# Altium footprint library PCBs.pcblib: 37 footprints (part 1 of 3)
Each footprint in its own frame and in the unit in brackets; x right, y up, seen from the top. Pads: shape width x height; smd on the part's side, far side on the other; paste and mask are expansions set on the pad; w line width, h text height; cw(c..) or ccw(c..) is an arc to the next point about the centre after c.
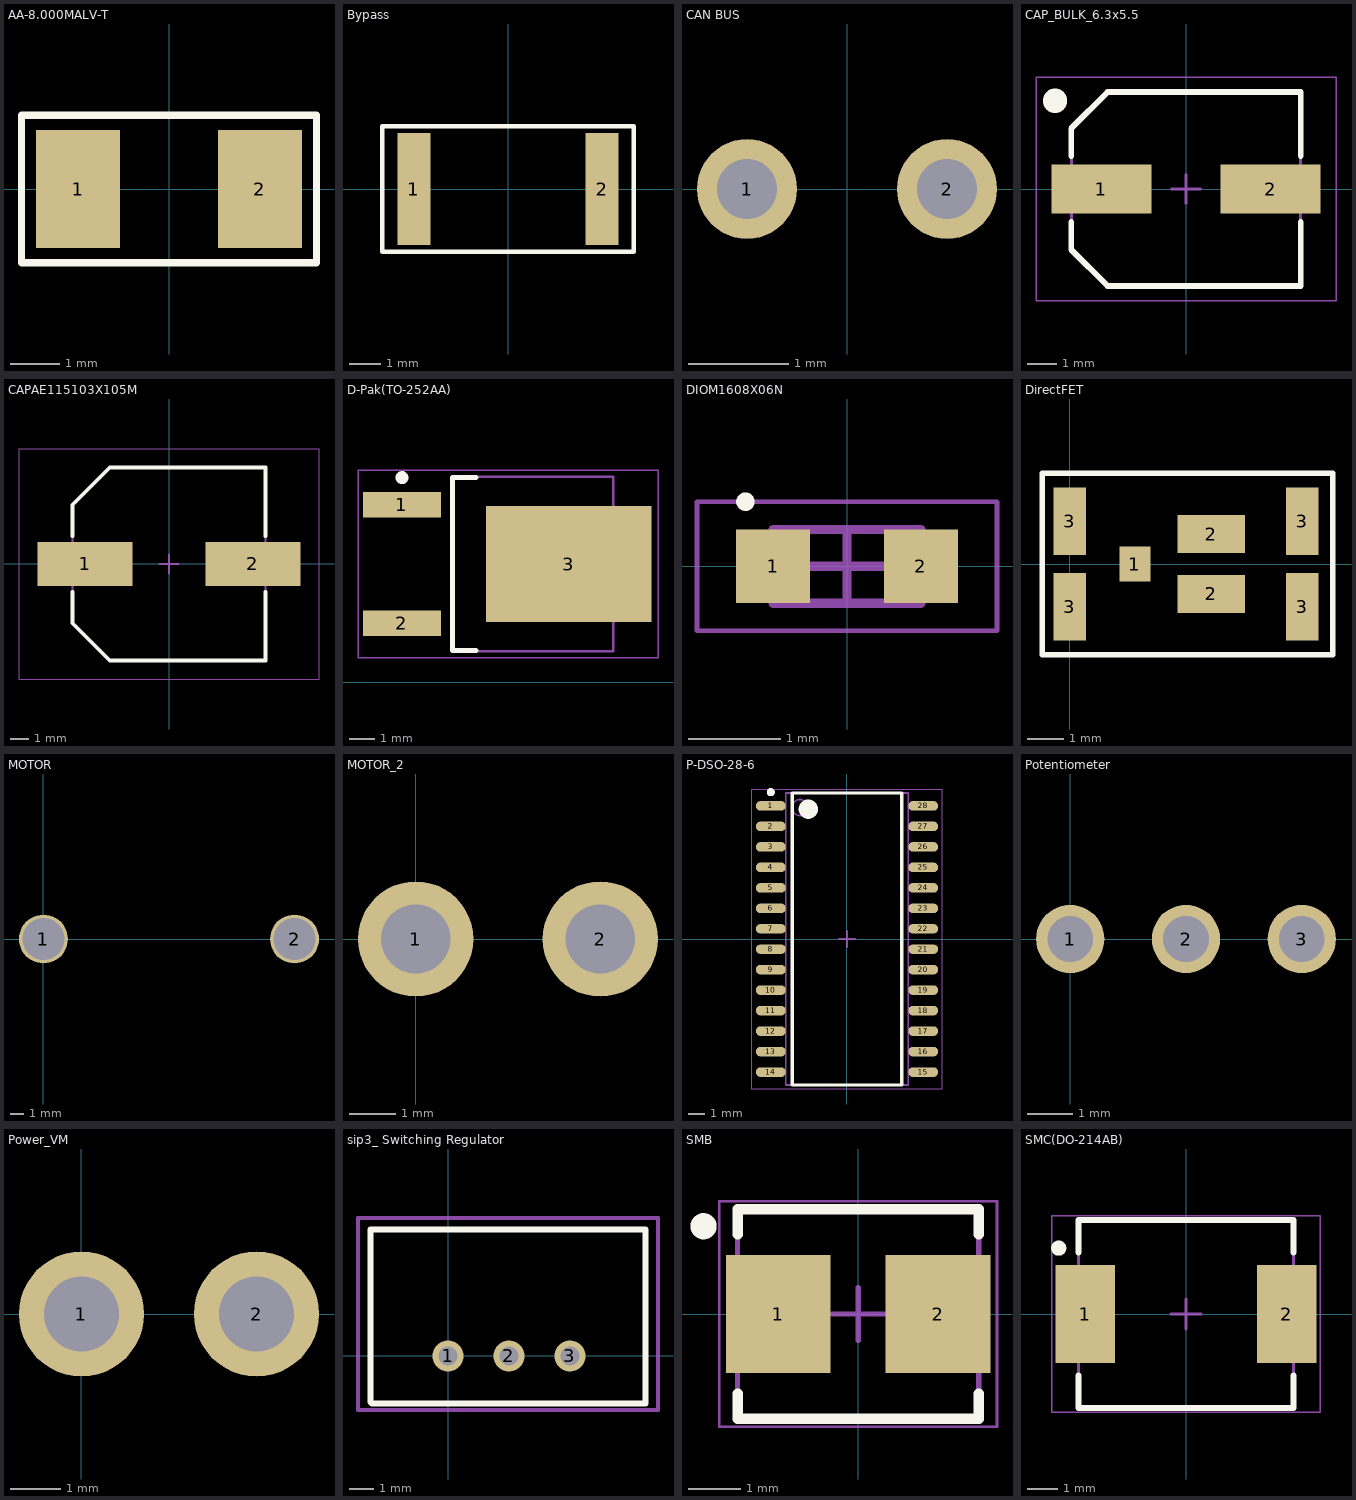
[diagram p0: the footprints below, top view; thin cyan lines are the x and y axes]

## AA-8.000MALV-T [mm]
height 1.25
pads (2):
  rect 1.7x2.4 smd: 1(-1.85,0) 2(1.85,0)
Top Overlay:
  lines w0.15: -3,-1.5 -3,1.5 3,1.5 3,-1.5 -3,-1.5
3D body "User Library-445-CRYTAL-SMD.step": height 1.35, standoff 0, extent -2.5,-1.6 2.5,1.6

## Bypass [mm]
pads (2):
  rect 1.05x3.55 smd: 1(-3,0) 2(3,0)
Top Overlay:
  lines w0.15: -4,-2 4,-2 4,2 -4,2 -4,-2
3D body "User Library-Resistor-4.step": height 0.58, standoff -0.03, extent -3.175,-1.625 3.225,1.575

## CAN BUS [mm]
pads (2):
  round 1 hole 0.6: 1(-1,0) 2(1,0)

## CAP_BULK_6.3x5.5 [mm] "Aluminum Electrolytic Capacitor, Body 7,80x4,30x5,40mm, IPC Medium Density"
height 5.4
pads (2):
  rect 3.4x1.65 smd: 1(-2.875,0) 2(2.875,0)
Top Overlay:
  circle w0.8: c-4.45,3 r0.01
  lines w0.2: -3.9,-1.125 -3.9,-2.063 -2.663,-3.3 3.9,-3.3 3.9,-1.125 ; -3.9,1.125 -3.9,2.063 -2.663,3.3 3.9,3.3 3.9,1.125
Mechanical 13:
  lines w0.1: -3.9,-2.063 -2.663,-3.3 3.9,-3.3 3.9,3.3 -2.663,3.3 -3.9,2.063 -3.9,-2.063
Mechanical 15:
  lines w0.05: -5.1,-3.8 -5.1,3.8 5.1,3.8 5.1,-3.8 -5.1,-3.8
  lines w0.1: -0.5,0 0.5,0 ; 0,-0.5 0,0.5
3D body "CAP_BULK.step": height 5.4, standoff -0.9, extent -4,-3.3 4,3.3

## CAPAE115103X105M [mm] "Aluminum Electrolytic Capacitor, Body 10,30x10,30x10,50mm, IPC Low Density"
height 10.5
pads (2):
  rect 5.05x2.35 smd: 1(-4.475,0) 2(4.475,0)
Top Overlay:
  lines w0.2: -5.15,-1.475 -5.15,-3.163 -3.163,-5.15 5.15,-5.15 5.15,-1.475 ; -5.15,1.475 -5.15,3.162 -3.163,5.15 5.15,5.15 5.15,1.475
Mechanical 13:
  lines w0.1: -5.15,-3.163 -5.15,3.162 -3.163,5.15 5.15,5.15 5.15,-5.15 -3.163,-5.15 -5.15,-3.163
Mechanical 15:
  lines w0.05: -8,-6.15 8,-6.15 8,6.15 -8,6.15 -8,-6.15
  lines w0.1: -0.5,0 0.5,0 ; 0,-0.5 0,0.5
3D body "CAPAE115103X105M.step": height 10.5, standoff 0, extent -5.75,-5.15 5.75,5.15

## D-Pak(TO-252AA) [mm] "D-PAK, 3-Pads, Body 6,21x6,73mm (max), IPC Medium Density"
height 2.39
pads (3):
  rect 3x1 smd: 1(-15.2,6.87) 2(-15.2,2.29)
  rect 6.4x4.5 smd: 3(-8.75,4.58)
Top Overlay:
  circle w0.25: c-15.2,7.92 r0.125
  lines w0.2: -12.35,1.23 -13.25,1.23 -13.25,7.93 -12.35,7.93
Mechanical 13:
  lines w0.1: -13.25,1.205 -7.03,1.205 -7.03,7.955 -13.25,7.955 -13.25,1.205
Mechanical 15:
  lines w0.05: -16.9,0.955 -5.3,0.955 -5.3,8.205 -16.9,8.205 -16.9,0.955
  lines w0.1: -11.6,4.58 -10.6,4.58 ; -11.1,4.08 -11.1,5.08
3D body "D-Pak(TO-252AA).step": height 2.39, standoff 0, extent -15.49,1.205 -5.585,7.955

## DIOM1608X06N [mm] "Molded Diode, 2-Leads, Body 1,60x0,80mm, IPC Medium Density"
height 0.6
pads (2):
  rect 0.8x0.8 smd: 1(-0.8,0) 2(0.8,0)
Top Overlay:
  circle w0.1: c-1.1,0.7 r0.05
Mechanical 13:
  rectangle: -0.8,-0.4 -0.585,0.4
  lines w0.1: -0.8,-0.4 -0.8,0.4 0.8,0.4 0.8,-0.4 -0.8,-0.4
Mechanical 15:
  lines w0.05: -1.625,-0.7 -1.625,0.7 1.625,0.7 1.625,-0.7 -1.625,-0.7
  lines w0.1: -0.4,0 0.4,0 ; 0,-0.4 0,0.4
3D body: height 0.6, standoff 0, extent -0.8,-0.4 0.8,0.4

## DirectFET [mm]
pads (7):
  rect 0.85x0.95 smd: 1(1.8,0)
  rect 1.85x1.05 smd: 2(3.9,-0.825) 2(3.9,0.825)
  rect 0.9x1.85 smd: 3(0,-1.175) 3(0,1.175) 3(6.41,-1.175) 3(6.41,1.175)
Top Overlay:
  lines w0.15: -0.75,-2.5 7.25,-2.5 7.25,2.5 -0.75,2.5 -0.75,-2.5
3D body "User Library-IRF6725_MX.step": height 0.65, standoff -0.02, extent 0.025,-2.5 6.375,2.5

## MOTOR [mm]
pads (2):
  round 3.5 hole 3: 1(0,0) 2(18,0)

## MOTOR_2 [mm]
pads (2):
  round 2.5 hole 1.5: 1(0,0) 2(4,0)

## P-DSO-28-6 [mm] "Plastic Dual Small Outline Package"
height 2.65
pads (28):
  oval 1.85x0.6 smd: 1(-4.725,8.255) 2(-4.725,6.985) 3(-4.725,5.715) 4(-4.725,4.445) 5(-4.725,3.175) 6(-4.725,1.905) 7(-4.725,0.635) 8(-4.725,-0.635) 9(-4.725,-1.905) 10(-4.725,-3.175) 11(-4.725,-4.445) 12(-4.725,-5.715) 13(-4.725,-6.985) 14(-4.725,-8.255) 15(4.725,-8.255) 16(4.725,-6.985) 17(4.725,-5.715) 18(4.725,-4.445) 19(4.725,-3.175) 20(4.725,-1.905) 21(4.725,-0.635) 22(4.725,0.635) 23(4.725,1.905) 24(4.725,3.175) 25(4.725,4.445) 26(4.725,5.715) 27(4.725,6.985) 28(4.725,8.255)
Top Overlay:
  circle w0.6: c-2.4,8.05 r0.3
  circle w0.25: c-4.725,9.105 r0.125
  lines w0.2: -3.4,-9.05 3.4,-9.05 3.4,9.05 -3.4,9.05 -3.4,-9.05
Mechanical 13:
  circle w0.1: c-2.9,8.15 r0.5
  lines w0.1: -3.8,-9.05 3.8,-9.05 3.8,9.05 -3.8,9.05 -3.8,-9.05
Mechanical 15:
  lines w0.05: -5.9,-9.3 5.9,-9.3 5.9,9.3 -5.9,9.3 -5.9,-9.3
  lines w0.1: -0.5,0 0.5,0 ; 0,-0.5 0,0.5
3D body "P-DSO-28-6.step": height 2.65, standoff 0, extent -5.15,-9.05 5.15,9.05

## Potentiometer [mm]
pads (3):
  round 1.5 hole 1: 1(0,0) 2(2.54,0) 3(5.08,0)
3D body "User Library-Header_Male_3Pin.STEP": height 8.54, standoff -3, extent -1.27,-1.245 6.35,1.245

## Power_VM [mm]
pads (2):
  round 2.5 hole 1.5: 1(0,0) 2(3.5,0)

## sip3_ Switching Regulator [mm]
height 10
pads (3):
  round 1.3 hole 0.8: 1(0,0) 2(2.54,0) 3(5.08,0)
Top Overlay:
  lines w0.254: -3.225,-1.925 -3.225,5.275 8.225,5.275 8.225,-1.975 -3.175,-1.975 -3.225,-1.925
Mechanical 1:
  lines w0.15: 5.15,5.75 8.5,5.75 8.75,5.75 8.75,-2.25 -3.75,-2.25 ; 5.3,5.75 0,5.75 -2.9,5.75 -3.75,5.75 -3.75,-2.25 ; -3.75,-2.25 -3.75,-2.25
3D body "Стабилизатор AMSR-7805-NZ.stp": height 9.5, standoff -4.5, extent -3.235,-2.108 8.365,5.392

## SMB [mm]
height 2.65
pads (2):
  rect 2x2.25 smd: 1(-1.525,0) 2(1.525,0)
Top Overlay:
  circle w0.25: c-2.95,1.675 r0.125
  lines w0.2: -2.3,-1.525 -2.3,-2 2.3,-2 2.3,-1.525 ; -2.3,1.525 -2.3,2 2.3,2 2.3,1.525
Mechanical 13:
  lines w0.1: -2.3,-1.975 -2.3,1.975 2.3,1.975 2.3,-1.975 -2.3,-1.975
Mechanical 15:
  lines w0.05: -2.65,-2.15 -2.65,2.15 2.65,2.15 2.65,-2.15 -2.65,-2.15
  lines w0.1: -0.5,0 0.5,0 ; 0,-0.5 0,0.5
3D body "SMB.step": height 2.65, standoff 0, extent -2.3,-1.975 2.3,1.975

## SMC(DO-214AB) [mm] "SODFL, 2-Leads, Body 5,90x7,94mm, IPC Medium Density"
height 2.65
pads (2):
  rect 1.95x3.25 smd: 1(-3.325,0) 2(3.325,0)
Top Overlay:
  circle w0.25: c-4.2,2.175 r0.125
  lines w0.2: -3.55,-2.025 -3.55,-3.1 3.55,-3.1 3.55,-2.025 ; -3.55,2.025 -3.55,3.1 3.55,3.1 3.55,2.025
Mechanical 13:
  lines w0.1: -3.555,-3.11 -3.555,3.11 3.555,3.11 3.555,-3.11 -3.555,-3.11
Mechanical 15:
  lines w0.05: -4.425,-3.25 -4.425,3.25 4.425,3.25 4.425,-3.25 -4.425,-3.25
  lines w0.1: -0.5,0 0.5,0 ; 0,-0.5 0,0.5
3D body "SMC(DO-214AB).step": height 2.65, standoff 0, extent -3.97,-3.11 3.97,3.11